# EAGLE library part MTCH102T (library alvie)
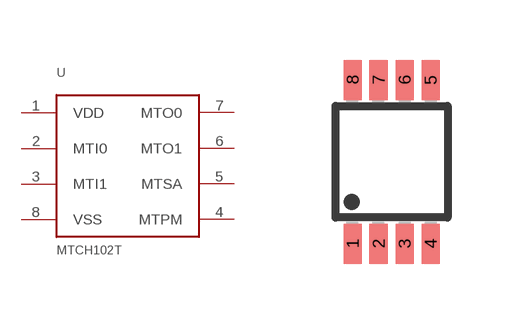
[diagram p59: symbol with the pads of MSOP8; footprint MSOP8]

Designator prefix -

## MTCH102T-I/MS  [MSOP8]
1  VDD  pwr
2  MTI0  pas
3  MTI1  pas
4  MTPM
5  MTSA
6  MTO1  hiz
7  MTO0  hiz
8  VSS  pwr

## Footprint MSOP8 (pad centres in mm)
smd 0.45 x 1: 1 -0.975,-2.05; 2 -0.325,-2.05; 3 0.325,-2.05; 4 0.975,-2.05; 5 0.975,2.05; 6 0.325,2.05; 7 -0.325,2.05; 8 -0.975,2.05